# EAGLE library part MCP73838 (library all-chips)
MCP73838 Microchip Advanced Stand-Alone Li-Ion/Li-Polymer Battery Charge Management Controller with Autonomous AC Adapter or USB Port Source Selection
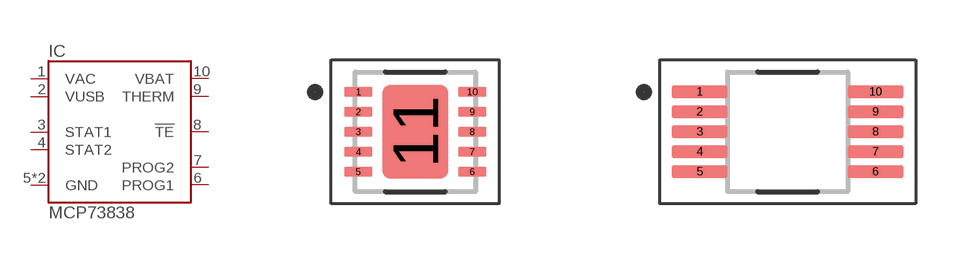
[diagram p25: symbol with the pads of DFN10_3.00X3.00MM; footprints DFN10_3.00X3.00MM, SOP10_3.00X3.00MM]

Designator prefix IC

## MCP73838*/MF  [DFN10_3.00X3.00MM]
1  VAC  pwr
2  VUSB  pwr
3  STAT1  out
4  STAT2  out
5  GND  pwr
6  PROG1  in
7  PROG2  in
8  !TE  in
9  THERM  in
10  VBAT  pwr
11  GND  pwr

## MCP73838*/UN  [SOP10_3.00X3.00MM]
1  VAC  pwr
2  VUSB  pwr
3  STAT1  out
4  STAT2  out
5  GND  pwr
6  PROG1  in
7  PROG2  in
8  !TE  in
9  THERM  in
10  VBAT  pwr

## Footprint DFN10_3.00X3.00MM (pad centres in mm)
https://www.analog.com/media/en/package-pcb-resources/package/pkg_pdf/ltc-legacy-dfn/DFN_10_05-08-1699.pdf
smd 0.7 x 0.25: 1 -1.425,1; 2 -1.425,0.5; 3 -1.425,0; 4 -1.425,-0.5; 5 -1.425,-1; 6 1.425,-1; 7 1.425,-0.5; 8 1.425,0; 9 1.425,0.5; 10 1.425,1
smd 1.65 x 2.35: 11 0,0

## Footprint SOP10_3.00X3.00MM (pad centres in mm)
https://ww1.microchip.com/downloads/en/DeviceDoc/10L-MSOP-3x3-mm-MS-C04-00021f.pdf
smd 1.4 x 0.3: 1 -2.2,1; 2 -2.2,0.5; 3 -2.2,0; 4 -2.2,-0.5; 5 -2.2,-1; 6 2.2,-1; 7 2.2,-0.5; 8 2.2,0; 9 2.2,0.5; 10 2.2,1